# Altium footprint library MMT_BJTs_FETs_TRIACs.PcbLib: 9 footprints
Each footprint in its own frame and in the unit in brackets; x right, y up, seen from the top. Pads: shape width x height; smd on the part's side, far side on the other; paste and mask are expansions set on the pad; w line width, h text height; cw(c..) or ccw(c..) is an arc to the next point about the centre after c.
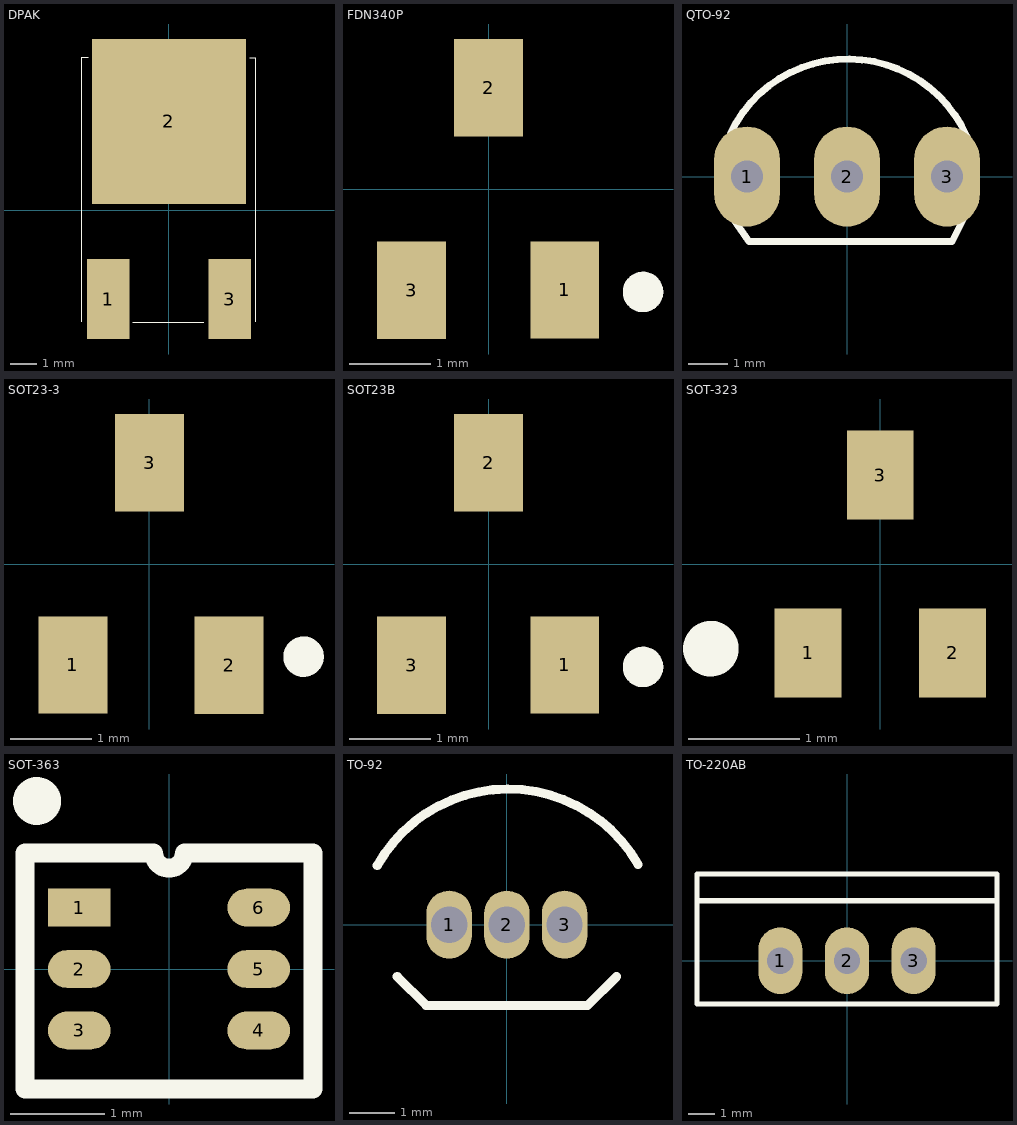
[diagram p0: the footprints below, top view; thin cyan lines are the x and y axes]

## DPAK [mm]
pads (3):
  rect 1.6x3 smd: 1(-2.285,-3.34) 3(2.285,-3.34)
  rect 5.8x6.2 smd: 2(0,3.34)
Top Overlay:
  lines w0.025: -3.285,-4.19 -3.285,5.76 -3.035,5.76 ; -1.36,-4.215 1.315,-4.215 ; 3.04,5.735 3.265,5.735 3.265,-4.19
3D body "User Library-DPAK-1.step": height 2.34, standoff -0.07, extent -3.28,-4.201 3.26,5.738

## FDN340P [mm] "SOT-23"
height 1.27
pads (3):
  rect 0.85x1.2 smd: 1(0.94,-1.245) 2(0,1.25) 3(-0.95,-1.25)
Top Overlay:
  circle w0.25: c1.905,-1.27 r0.125
3D body "SW3DPS-SOT-23-DEFAULT.STEP": height 1.06, standoff -0.04, extent -1.5,-1.301 1.5,1.199

## QTO-92 [mil] "TO-92"
height 200
pads (3):
  oval 66x100 hole 32: 1(-100,0) 2(0,0) 3(100,0)
Top Overlay:
  lines w7: -116.52,43.21 cw(c0.97,-12.43) 119.94,39.97 ; -115.34,-40.24 -98,-65 105,-65 118,-39
3D body "SW3dPS-TO92.STEP": height 245.04, standoff -199.79, extent -108.87,-65.56 108.86,95

## SOT23-3 [mm] "SOT23-3"
height 1.27
pads (3):
  rect 0.85x1.2 smd: 1(-0.94,-1.245) 2(0.985,-1.25) 3(0.005,1.25)
Top Overlay:
  circle w0.25: c1.905,-1.143 r0.125
3D body "SW3DPS-SOT-23-DEFAULT.STEP": height 1.06, standoff -0.04, extent -1.475,-1.326 1.525,1.174

## SOT23B [mm] "SOT 23B"
height 1.27
pads (3):
  rect 0.85x1.2 smd: 1(0.94,-1.245) 2(0,1.25) 3(-0.95,-1.25)
Top Overlay:
  circle w0.25: c1.905,-1.27 r0.125
3D body "SW3DPS-SOT-23-DEFAULT.STEP": height 1.06, standoff -0.04, extent -1.5,-1.301 1.5,1.199

## SOT-323 [mm]
pads (3):
  rect 0.6x0.8 smd: 1(-0.65,-0.8) 2(0.65,-0.8) 3(0,0.8)
Top Overlay:
  circle w0.25: c-1.524,-0.762 r0.125
3D body "User Library-SOT323 (SC70-3)-1.STEP": height 1.1, standoff 0, extent -1.1,-1.122 1.1,1.123

## SOT-363 [mm]
pads (6):
  rect 0.66x0.4 smd: 1(-0.95,0.65)
  oval 0.66x0.4 smd: 2(-0.95,0) 3(-0.95,-0.65) 4(0.95,-0.65) 5(0.95,0) 6(0.95,0.65)
Top Overlay:
  circle w0.254: c-1.397,1.778 r0.127
  lines w0.2: -1.524,-1.27 -1.524,1.229 -0.162,1.229 ccw(c0,1.229) 0.162,1.229 1.524,1.229 1.524,-1.27 -1.524,-1.27
3D body "User Library-SOT363-2.step": height 1.1, standoff 0, extent -1.2,-1.1 1.2,1.1

## TO-92 [mm] "TO-92"
height 5.08
pads (3):
  oval 1x1.5 hole 0.8: 1(-1.27,0) 2(0,0) 3(1.27,0)
Top Overlay:
  lines w0.2: -2.853,1.303 cw(c0.025,-0.316) 2.89,1.325 ; -2.413,-1.143 -1.778,-1.778 1.778,-1.778 2.413,-1.143
3D body "User Library-TO-92_Str.STEP": height 5, standoff -8, extent -2.613,-1.59 2.613,2.613

## TO-220AB [mm] "TO-220AB"
height 5.08
pads (3):
  oval 1.676x2.54 hole 1: 1(-2.54,0) 2(0,0) 3(2.54,0)
Top Overlay:
  lines w0.2: -5.715,2.286 5.715,2.286 ; -5.715,-1.651 -5.715,3.302 5.715,3.302 5.715,-1.651 -5.715,-1.651
3D body "User Library-TO220AB.step": height 19.33, standoff -10, extent -5.606,-1.495 5.607,3.195